# Altium footprint library 5050LED.PcbLib: 1 footprints
Each footprint in its own frame and in the unit in brackets; x right, y up, seen from the top. Pads: shape width x height; smd on the part's side, far side on the other; paste and mask are expansions set on the pad; w line width, h text height; cw(c..) or ccw(c..) is an arc to the next point about the centre after c.
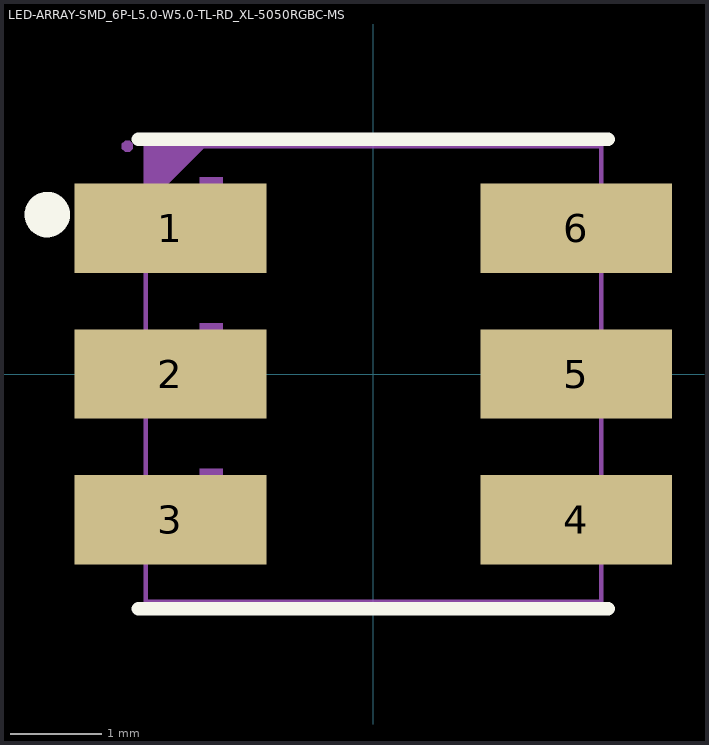
[diagram p0: the footprint, top view; thin cyan lines are the x and y axes]

## LED-ARRAY-SMD_6P-L5.0-W5.0-TL-RD_XL-5050RGBC-MS [mm]
pads (6):
  rect 2.105x0.98 smd mask+0.051: 1(-2.228,1.6) 2(-2.228,0) 3(-2.228,-1.6) 4(2.228,-1.6) 5(2.228,0) 6(2.228,1.6)
Top Overlay:
  circle w0.25: c-3.58,1.75 r0.125
  lines w0.152: -2.576,-2.576 2.576,-2.576 ; -2.576,2.576 2.576,2.576
Mechanical 6:
  region: -2.286,-1.422 -2.286,-1.676 -1.27,-1.676 -1.27,-1.422
  region: -1.905,-2.057 -1.651,-2.057 -1.651,-1.041 -1.905,-1.041
  region: -2.286,0.178 -2.286,-0.076 -1.27,-0.076 -1.27,0.178
  region: -1.905,-0.457 -1.651,-0.457 -1.651,0.559 -1.905,0.559
  region: -1.905,1.143 -1.651,1.143 -1.651,2.159 -1.905,2.159
  region: 2.169,-1.722 2.169,-1.976 3.185,-1.976 3.185,-1.722
  region: 2.169,0.028 2.169,-0.226 3.185,-0.226 3.185,0.028
  region: 2.169,1.778 2.169,1.524 3.185,1.524 3.185,1.778
  region: -2.286,1.778 -2.286,1.524 -1.27,1.524 -1.27,1.778
  region: -1.743,2.6 -2.505,2.6 -2.505,1.838
Mechanical 15:
  region: -2.7,0.45 -1.6,0.45 -1.6,-0.45 -2.7,-0.45
  region: 1.6,2.05 2.7,2.05 2.7,1.15 1.6,1.15
  region: 1.6,0.45 2.7,0.45 2.7,-0.45 1.6,-0.45
  region: -2.7,2.05 -1.6,2.05 -1.6,1.15 -2.7,1.15
  region: -2.7,-1.15 -1.6,-1.15 -1.6,-2.05 -2.7,-2.05
  region: 1.6,-1.15 2.7,-1.15 2.7,-2.05 1.6,-2.05
  region: -2.64,2.5 -2.64,2.525 -2.675,2.56 -2.724,2.56 -2.76,2.525 -2.76,2.5 -2.76,2.475 -2.724,2.44 -2.675,2.44 -2.64,2.475 -2.64,2.5
  lines w0.051: -2.5,-2.5 -2.5,2.5 2.5,2.5 2.5,-2.5 -2.5,-2.5
3D body "5050LED.STEP": height 3.2, standoff 1.6, extent -2.573,-2.504 2.827,2.5